# Altium footprint library BAT20JFILM.PCBLIB: 3 footprints
Each footprint in its own frame and in the unit in brackets; x right, y up, seen from the top. Pads: shape width x height; smd on the part's side, far side on the other; paste and mask are expansions set on the pad; w line width, h text height; cw(c..) or ccw(c..) is an arc to the next point about the centre after c.
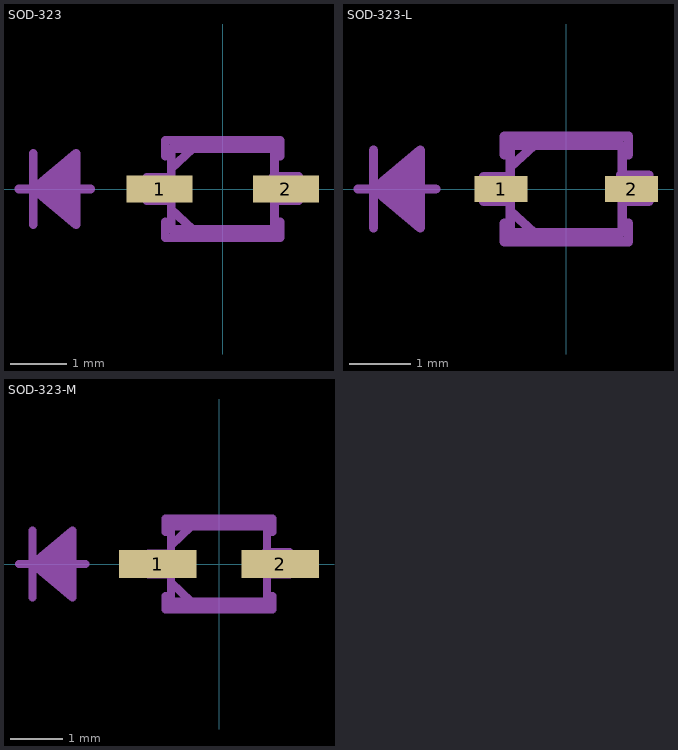
[diagram p0: the footprints below, top view; thin cyan lines are the x and y axes]

## SOD-323 [mil]
pads (2):
  rect 46x19 smd: 1(-44,0) 2(44,0)
Mechanical 8:
  lines w6: -142,0 -132,0 ; -132,-25 -132,0 ; -132,25 -132,0 ; -102,-20 -132,0 ; -102,-15 -132,0 ; -102,-10 -132,0 ; -102,-5 -132,0 ; -102,5 -132,0 ; -102,10 -132,0 ; -102,15 -132,0 ; -102,20 -132,0 ; -92,0 -132,0 ; -36,-14 -21,-28 ; -36,14 -21,28 ; -132,0 -102,25 -102,-25 -132,0 ; -53,-8 -53,8 -36,8 -36,-8 -53,-8 ; -36,-28 36,-28 36,28 -36,28 -36,-28 ; 35,9 36,-8 53,-8 53,9 35,9
Mechanical 22:
  lines w6: -142,0 -132,0 ; -132,-25 -132,0 ; -132,25 -132,0 ; -102,-20 -132,0 ; -102,-15 -132,0 ; -102,-10 -132,0 ; -102,-5 -132,0 ; -102,5 -132,0 ; -102,10 -132,0 ; -102,15 -132,0 ; -102,20 -132,0 ; -92,0 -132,0 ; -40,-23 -40,-34 40,-34 40,-23 ; -40,23 -40,34 40,34 40,23 ; -132,0 -102,25 -102,-25 -132,0

## SOD-323-L [mil]
pads (2):
  rect 34x17 smd: 1(-42,0) 2(42,0)
Mechanical 8:
  lines w6: -134,0 -124,0 ; -124,-25 -124,0 ; -124,25 -124,0 ; -94,-20 -124,0 ; -94,-15 -124,0 ; -94,-10 -124,0 ; -94,-5 -124,0 ; -94,5 -124,0 ; -94,10 -124,0 ; -94,15 -124,0 ; -94,20 -124,0 ; -84,0 -124,0 ; -36,-14 -21,-28 ; -36,14 -21,28 ; -124,0 -94,25 -94,-25 -124,0 ; -53,-8 -53,8 -36,8 -36,-8 -53,-8 ; -36,-28 36,-28 36,28 -36,28 -36,-28 ; 35,9 36,-8 53,-8 53,9 35,9
Mechanical 22:
  lines w6: -134,0 -124,0 ; -124,-25 -124,0 ; -124,25 -124,0 ; -94,-20 -124,0 ; -94,-15 -124,0 ; -94,-10 -124,0 ; -94,-5 -124,0 ; -94,5 -124,0 ; -94,10 -124,0 ; -94,15 -124,0 ; -94,20 -124,0 ; -84,0 -124,0 ; -40,-22 -40,-34 40,-34 40,-22 ; -40,22 -40,34 40,34 40,22 ; -124,0 -94,25 -94,-25 -124,0

## SOD-323-M [mil]
pads (2):
  rect 58x21 smd: 1(-46,0) 2(46,0)
Mechanical 8:
  lines w6: -150,0 -140,0 ; -140,-25 -140,0 ; -140,25 -140,0 ; -110,-20 -140,0 ; -110,-15 -140,0 ; -110,-10 -140,0 ; -110,-5 -140,0 ; -110,5 -140,0 ; -110,10 -140,0 ; -110,15 -140,0 ; -110,20 -140,0 ; -100,0 -140,0 ; -36,-14 -21,-28 ; -36,14 -21,28 ; -140,0 -110,25 -110,-25 -140,0 ; -53,-8 -53,8 -36,8 -36,-8 -53,-8 ; -36,-28 36,-28 36,28 -36,28 -36,-28 ; 35,9 36,-8 53,-8 53,9 35,9
Mechanical 22:
  lines w6: -150,0 -140,0 ; -140,-25 -140,0 ; -140,25 -140,0 ; -110,-20 -140,0 ; -110,-15 -140,0 ; -110,-10 -140,0 ; -110,-5 -140,0 ; -110,5 -140,0 ; -110,10 -140,0 ; -110,15 -140,0 ; -110,20 -140,0 ; -100,0 -140,0 ; -40,-24 -40,-34 40,-34 40,-24 ; -40,24 -40,34 40,34 40,24 ; -140,0 -110,25 -110,-25 -140,0